# EAGLE library part TPS53319DQPR (library parts)
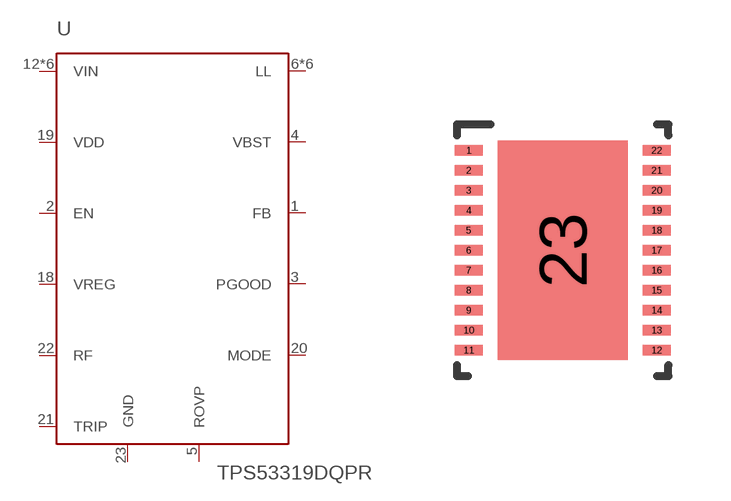
[diagram p0: symbol with the pads of DQP0022A; footprint DQP0022A]

Designator prefix -

## TPS53319DQPR (DATASHEETURL: http://www.ti.com/product/tps53318; FREQUENCY: 500000.0; IMAX: 8.0; MANUFACTURER_NAME: Texas Instruments; MANUFACTURER_PART_NUMBER: TPS53318DQPR; MKTG_PACKAGE: DQP0022A; NSID: TPS53318DQPR; PACKAGE: DQP0022A; VENDOR: Texas Instruments)  [DQP0022A]
1  FB  pas
2  EN  pas
3  PGOOD  pas
4  VBST  pas
5  ROVP  pas
6  LL  pas
7  LL  pas
8  LL  pas
9  LL  pas
10  LL  pas
11  LL  pas
12  VIN  pas
13  VIN  pas
14  VIN  pas
15  VIN  pas
16  VIN  pas
17  VIN  pas
18  VREG  pas
19  VDD  pas
20  MODE  pas
21  TRIP  pas
22  RF  pas
23  GND  pas

## Footprint DQP0022A (pad centres in mm)
smd 0.711 x 0.254: 1 -2.35,2.5; 2 -2.35,2; 3 -2.35,1.5; 4 -2.35,1; 5 -2.35,0.5; 6 -2.35,0; 7 -2.35,-0.5; 8 -2.35,-1; 9 -2.35,-1.5; 10 -2.35,-2; 11 -2.35,-2.5; 12 2.35,-2.5; 13 2.35,-2; 14 2.35,-1.5; 15 2.35,-1; 16 2.35,-0.5; 17 2.35,0; 18 2.35,0.5; 19 2.35,1; 20 2.35,1.5; 21 2.35,2; 22 2.35,2.5
smd 3.251 x 5.486: 23 0,0